# Altium footprint library Misc.PcbLib: 150 footprints (part 10 of 10)
Each footprint in its own frame and in the unit in brackets; x right, y up, seen from the top. Pads: shape width x height; smd on the part's side, far side on the other; paste and mask are expansions set on the pad; w line width, h text height; cw(c..) or ccw(c..) is an arc to the next point about the centre after c.
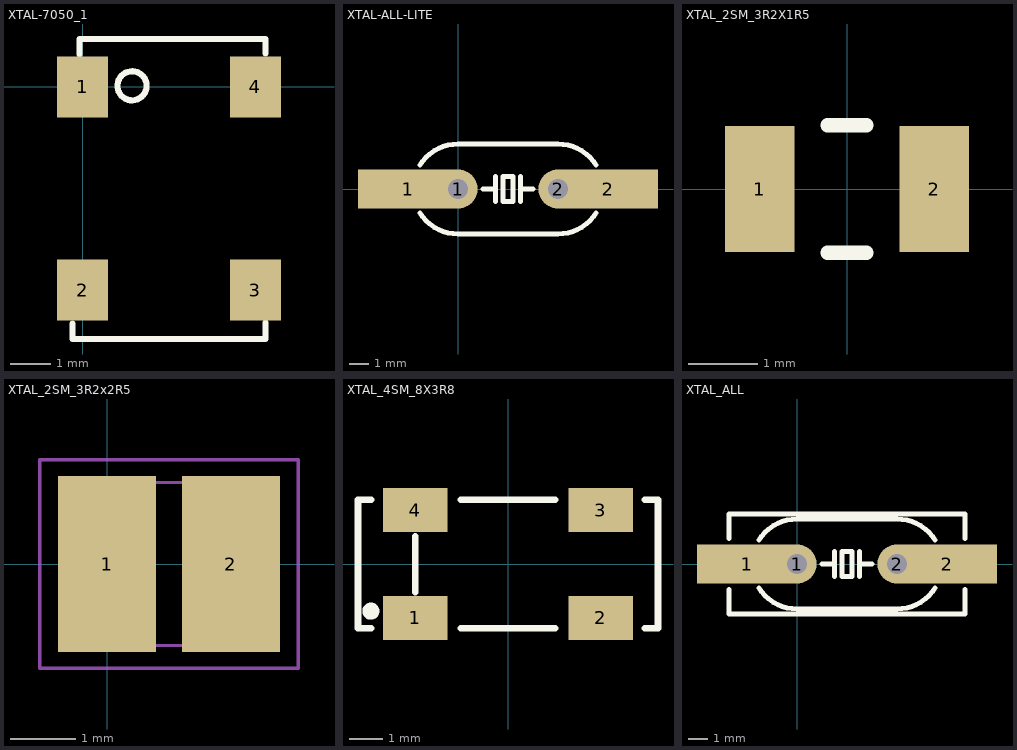
[diagram p9: the footprints below, top view; thin cyan lines are the x and y axes]

## XTAL-7050_1 [mil]
pads (4):
  rect 50x60 smd: 1(0,0) 2(0,-200) 3(170,-200) 4(170,0)
Top Overlay:
  circle w6: c48.68,1 r14.32
  lines w6: -10,-233 -10,-248 180,-248 180,-232 ; -3,32 -3,47 180,47 180,33

## XTAL-ALL-LITE [mm]
pads (4):
  rect 5.08x2 smd: 1(-2.54,0) 2(7.62,0)
  round 2 hole 1: 1(0,0) 2(5.08,0)
Top Overlay:
  lines w0.254: -1.939,-1.212 ccw(c0,0) 0,-2.286 5.08,-2.286 ccw(c5.08,0) 7.019,-1.212 ; -1.939,1.212 cw(c0,0) 0,2.286 5.08,2.286 cw(c5.08,0) 7.019,1.212 ; 1.27,0 1.905,0 ; 1.905,-0.635 1.905,0.635 ; 3.175,-0.635 3.175,0.635 ; 3.175,0 3.81,0 ; 2.286,-0.635 2.286,0.635 2.794,0.635 2.794,-0.635 2.286,-0.635

## XTAL_2SM_3R2X1R5 [mm] "CRYSTAL 32.768KHZ 6PF SMD 2 pads"
height 1.1
pads (2):
  rect 1x1.8 smd: 1(-1.25,0) 2(1.25,0)
Top Overlay:
  lines w0.203: -0.279,-0.914 0.279,-0.914 ; -0.279,0.914 0.279,0.914
3D body: height 0.89, standoff 0, extent -1.628,-0.752 1.577,0.752

## XTAL_2SM_3R2x2R5 [mm] "8M Hz 5x3.2mm"
height 0.9
pads (2):
  rect 1.5x2.7 smd: 1(0,0) 2(1.9,0)
Mechanical 13:
  lines w0.051: -0.65,-1.25 2.55,-1.25 2.55,1.25 -0.65,1.25 -0.65,-1.25
Mechanical 15:
  lines w0.051: -1.031,-1.6 -1.031,1.6 2.931,1.6 2.931,-1.6 -1.031,-1.6
3D body: height 1, standoff 0, extent -0.65,-1.25 2.55,1.25

## XTAL_4SM_8X3R8 [mm]
height 2
pads (4):
  rect 1.9x1.3 smd: 1(-2.75,-1.6) 2(2.75,-1.6) 3(2.75,1.6) 4(-2.75,1.6)
Top Overlay:
  circle w0.254: c-4.064,-1.397 r0.127
  lines w0.203: -4.064,-1.905 -4.445,-1.905 -4.445,1.905 -4.064,1.905 ; -2.75,-0.838 -2.75,0.813 ; -1.397,-1.905 1.397,-1.905 ; -1.397,1.905 1.397,1.905 ; 4.064,-1.905 4.445,-1.905 4.445,-1.651 4.445,1.651 4.445,1.905 4.064,1.905

## XTAL_ALL [mm]
pads (4):
  rect 5.08x2 smd: 1(-2.54,0) 2(7.62,0)
  round 2 hole 1: 1(0,0) 2(5.08,0)
Top Overlay:
  lines w0.254: -3.46,-1.301 -3.46,-2.54 8.54,-2.54 8.54,-1.301 ; -3.46,1.301 -3.46,2.54 8.54,2.54 8.54,1.301 ; -1.939,-1.212 ccw(c0,0) 0,-2.286 5.08,-2.286 ccw(c5.08,0) 7.019,-1.212 ; -1.939,1.212 cw(c0,0) 0,2.286 5.08,2.286 cw(c5.08,0) 7.019,1.212 ; 1.27,0 1.905,0 ; 1.905,-0.635 1.905,0.635 ; 3.175,-0.635 3.175,0.635 ; 3.175,0 3.81,0 ; 2.286,-0.635 2.286,0.635 2.794,0.635 2.794,-0.635 2.286,-0.635